# Altium schematic symbol library DRV8434PRGER.SchLib: 1 symbol
Pins are listed as number, name and electrical type; pins without a type are passive.

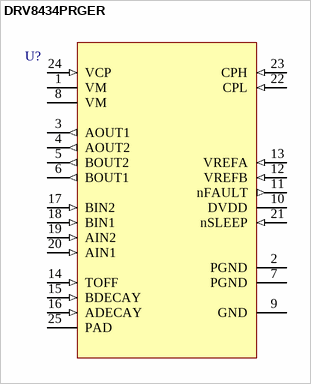
[diagram p0: symbol DRV8434PRGER]

## DRV8434PRGER
designator U?
=Description; Manufacturer: Texas Instruments; Manufacturer Part Number: DRV8434PRGER; Supplier 1: Digi-Key; RoHS: Yes; Category: Integrated Circuits (ICs); Stock 1: 1899; Pricing 1: 1=4.57000, 10=4.10700, 25=3.88280, 100=3.36510, 250=3.19252, 500=2.86462, 1000=2.84900 (USD); Supplier Part Number 1: 296-DRV8434PRGERCT-ND
pins: 1 VM (power), 2 PGND (power), 3 AOUT1 (out), 4 AOUT2 (out), 5 BOUT2 (out), 6 BOUT1 (out), 7 PGND (power), 8 VM (power), 9 GND (power), 10 DVDD (power), 11 nFAULT (out), 12 VREFB (in), 13 VREFA (in), 14 TOFF (in), 15 BDECAY (in), 16 ADECAY (in), 17 BIN2 (in), 18 BIN1 (in), 19 AIN2 (in), 20 AIN1 (in), 21 nSLEEP (in), 22 CPL (in), 23 CPH (in), 24 VCP (in), 25 PAD (power)